# EAGLE library part ATMEGA32U4 (library ISS-Notify)
ATMega32U4 AVR embedded microcontroller with USB, UART, SPI, I2C, 32K program space, 1K eeprom, 2.5 K sram
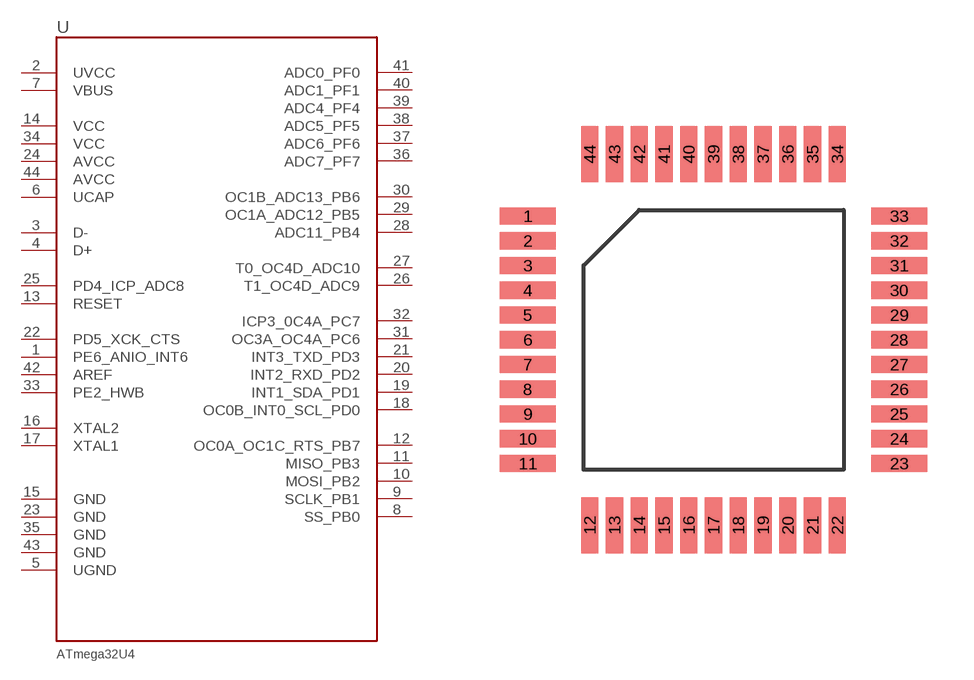
[diagram p0: symbol with the pads of TQFP-44; footprint TQFP-44]

Designator prefix U

## ATMEGA32U4  [TQFP-44]
1  PE6_ANIO_INT6
2  UVCC  pwr
3  D-
4  D+
5  UGND  pwr
6  UCAP
7  VBUS
8  SS_PB0
9  SCLK_PB1
10  MOSI_PB2
11  MISO_PB3
12  OC0A_OC1C_RTS_PB7
13  RESET  in
14  VCC  pwr
15  GND  pwr
16  XTAL2  hiz
17  XTAL1  hiz
18  OC0B_INT0_SCL_PD0
19  INT1_SDA_PD1
20  INT2_RXD_PD2
21  INT3_TXD_PD3
22  PD5_XCK_CTS
23  GND  pwr
24  AVCC  pwr
25  PD4_ICP_ADC8
26  T1_OC4D_ADC9
27  T0_OC4D_ADC10
28  ADC11_PB4
29  OC1A_ADC12_PB5
30  OC1B_ADC13_PB6
31  OC3A_OC4A_PC6
32  ICP3_0C4A_PC7
33  PE2_HWB
34  VCC  pwr
35  GND  pwr
36  ADC7_PF7
37  ADC6_PF6
38  ADC5_PF5
39  ADC4_PF4
40  ADC1_PF1
41  ADC0_PF0
42  AREF  in
43  GND  pwr
44  AVCC  pwr

## Footprint TQFP-44 (pad centres in mm)
smd 1.8 x 0.56: 1 -6,4; 2 -6,3.2; 3 -6,2.4; 4 -6,1.6; 5 -6,0.8; 6 -6,0; 7 -6,-0.8; 8 -6,-1.6; 9 -6,-2.4; 10 -6,-3.2; 11 -6,-4; 23 6,-4; 24 6,-3.2; 25 6,-2.4; 26 6,-1.6; 27 6,-0.8; 28 6,0; 29 6,0.8; 30 6,1.6; 31 6,2.4; 32 6,3.2; 33 6,4
smd 0.56 x 1.8: 12 -4,-6; 13 -3.2,-6; 14 -2.4,-6; 15 -1.6,-6; 16 -0.8,-6; 17 0,-6; 18 0.8,-6; 19 1.6,-6; 20 2.4,-6; 21 3.2,-6; 22 4,-6; 34 4,6; 35 3.2,6; 36 2.4,6; 37 1.6,6; 38 0.8,6; 39 0,6; 40 -0.8,6; 41 -1.6,6; 42 -2.4,6; 43 -3.2,6; 44 -4,6